# EAGLE library part BC840M (library BC840M)
Check prices <https://pricing.snapeda.com/parts/BC840M/Fanstel%20Corp./view-part?ref=eda>
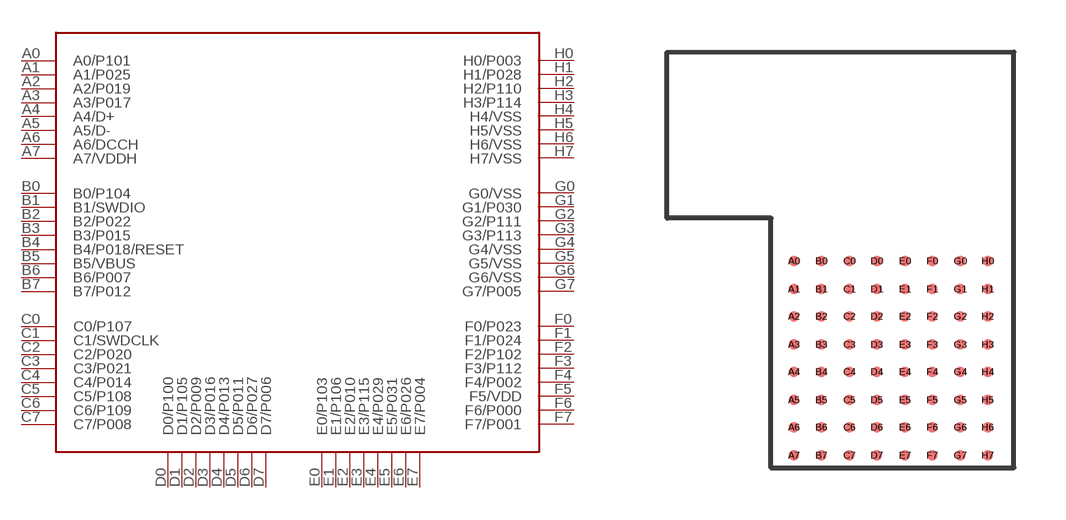
[diagram p0: symbol with the pads of BC840M; footprint BC840M]

Designator prefix U

## BC840M (Availability: In Stock; Description: 802.15.4, Bluetooth Bluetooth v5.0, Thread, Zigbee® Transceiver Module 2.4GHz PCB Trace Surface Mount; MF: Fanstel Corp.; MP: BC840M; Package: None; Price: None; Purchase-URL: https://pricing.snapeda.com/search/part/BC840M/?ref=eda)  [BC840M]
A0  A0/P101
A1  A1/P025
A2  A2/P019
A3  A3/P017
A4  A4/D+
A5  A5/D-
A6  A6/DCCH
A7  A7/VDDH
B0  B0/P104
B1  B1/SWDIO
B2  B2/P022
B3  B3/P015
B4  B4/P018/RESET
B5  B5/VBUS
B6  B6/P007
B7  B7/P012
C0  C0/P107
C1  C1/SWDCLK
C2  C2/P020
C3  C3/P021
C4  C4/P014
C5  C5/P108
C6  C6/P109
C7  C7/P008
D0  D0/P100
D1  D1/P105
D2  D2/P009
D3  D3/P016
D4  D4/P013
D5  D5/P011
D6  D6/P027
D7  D7/P006
E0  E0/P103
E1  E1/P106
E2  E2/P010
E3  E3/P115
E4  E4/P029
E5  E5/P031
E6  E6/P026
E7  E7/P004
F0  F0/P023
F1  F1/P024
F2  F2/P102
F3  F3/P112
F4  F4/P002
F5  F5/VDD
F6  F6/P000
F7  F7/P001
G0  G0/VSS
G1  G1/P030
G2  G2/P111
G3  G3/P113
G4  G4/VSS
G5  G5/VSS
G6  G6/VSS
G7  G7/P005
H0  H0/P003
H1  H1/P028
H2  H2/P110
H3  H3/P114
H4  H4/VSS
H5  H5/VSS
H6  H6/VSS
H7  H7/VSS

## Footprint BC840M (pad centres in mm)
Original name BC840-MZ1
smd 0.305 x 0.305: A0 0.66,5.966; A1 0.66,5.153; A2 0.66,4.366; A3 0.66,3.553; A4 0.66,2.765; A5 0.66,1.953; A6 0.66,1.165; A7 0.66,0.352; B0 1.448,5.966; B1 1.448,5.153; B2 1.448,4.366; B3 1.448,3.553; B4 1.448,2.765; B5 1.448,1.953; B6 1.448,1.165; B7 1.448,0.352; C0 2.261,5.966; C1 2.261,5.153; C2 2.261,4.366; C3 2.261,3.553; C4 2.261,2.765; C5 2.261,1.953; C6 2.261,1.165; C7 2.261,0.352; D0 3.048,5.966; D1 3.048,5.153; D2 3.048,4.366; D3 3.048,3.553; D4 3.048,2.765; D5 3.048,1.953; D6 3.048,1.165; D7 3.048,0.352; E0 3.861,5.966; E1 3.861,5.153; E2 3.861,4.366; E3 3.861,3.553; E4 3.861,2.765; E5 3.861,1.953; E6 3.861,1.165; E7 3.861,0.352; F0 4.648,5.966; F1 4.648,5.153; F2 4.648,4.366; F3 4.648,3.553; F4 4.648,2.765; F5 4.648,1.953; F6 4.648,1.165; F7 4.648,0.352; G0 5.461,5.966; G1 5.461,5.153; G2 5.461,4.366; G3 5.461,3.553; G4 5.461,2.765; G5 5.461,1.953; G6 5.461,1.165; G7 5.461,0.352; H0 6.248,5.966; H1 6.248,5.153; H2 6.248,4.366; H3 6.248,3.553; H4 6.248,2.765; H5 6.248,1.953; H6 6.248,1.165; H7 6.248,0.352